# EAGLE library part REGULATOR-TI-LM317LID (library Pygmy)
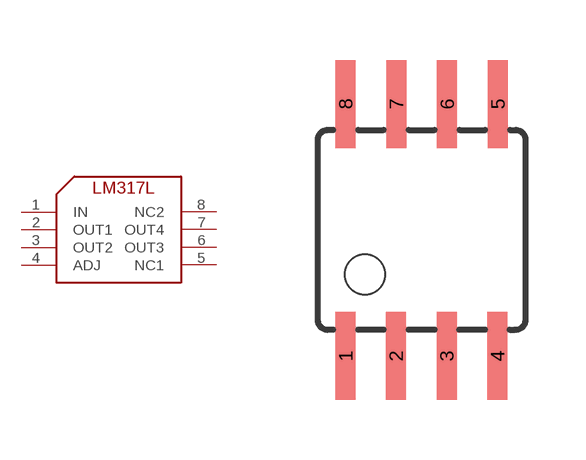
[diagram p54: symbol with the pads of SOIC8; footprint SOIC8]

Designator prefix -

## REGULATOR-TI-LM317LID  [SOIC8]
1  IN
2  OUT1
3  OUT2
4  ADJ
5  NC1
6  OUT3
7  OUT4
8  NC2

## Footprint SOIC8 (pad centres in mm)
Wide Plastic Gull Wing Small Outline Package
smd 0.5 x 2.2: 1 -1.905,-3.154; 2 -0.645,-3.154; 3 0.625,-3.154; 4 1.895,-3.154; 5 1.905,3.154; 6 0.635,3.154; 7 -0.635,3.154; 8 -1.905,3.154